# Altium schematic symbol library BCP56-10.Schlib: 1 symbol
Pins are listed as number, name and electrical type; pins without a type are passive.

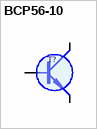
[diagram p0: symbol BCP56-10]

## BCP56-10
designator T?
SOT89     80V 1A 180MHz   6p (BCP53-10)
pins: 1 B, 2 C (oc), 3 E (oe)
1 alternate drawing of the same symbol